# EAGLE library part AT97SC3205T (library KVB-ICs)
Trusted Platform Module (TPM)
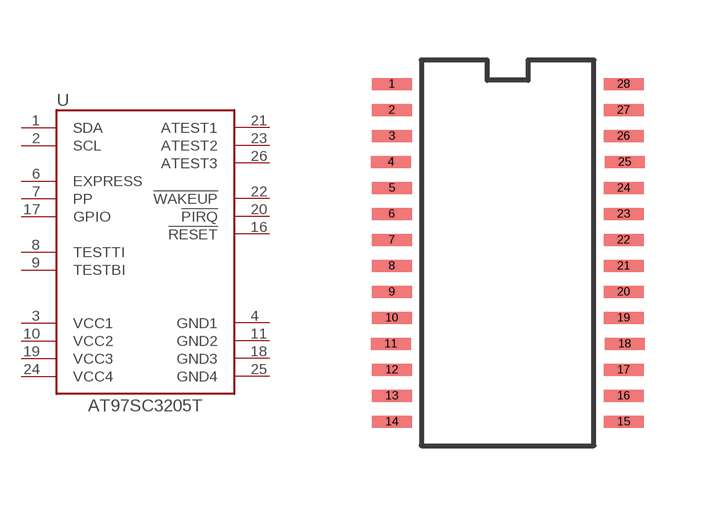
[diagram p3: symbol with the pads of AT97SC3205T; footprint AT97SC3205T]

Designator prefix U

## AT97SC3205T (MAN-PART_NUM: AT97SC3205T-U3A1C-10; MANUFACTURER: Microchip)  [AT97SC3205T]
1  SDA
2  SCL
3  VCC1
4  GND1
6  EXPRESS
7  PP
8  TESTTI
9  TESTBI
10  VCC2
11  GND2
16  !RESET
17  GPIO
18  GND3
19  VCC3
20  !PIRQ
21  ATEST1
22  !WAKEUP
23  ATEST2
24  VCC4
25  GND4
26  ATEST3

## Footprint AT97SC3205T (pad centres in mm)
smd 1 x 0.3: 1 -2.9,4.225; 2 -2.9,3.575; 3 -2.9,2.925; 4 -2.925,2.275; 5 -2.9,1.625; 6 -2.9,0.975; 7 -2.9,0.325; 8 -2.9,-0.325; 9 -2.9,-0.975; 10 -2.9,-1.625; 11 -2.925,-2.275; 12 -2.9,-2.925; 13 -2.9,-3.575; 14 -2.9,-4.225; 15 2.9,-4.225; 16 2.9,-3.575; 17 2.9,-2.925; 18 2.925,-2.275; 19 2.9,-1.625; 20 2.9,-0.975; 21 2.9,-0.325; 22 2.9,0.325; 23 2.9,0.975; 24 2.9,1.625; 25 2.925,2.275; 26 2.9,2.925; 27 2.9,3.575; 28 2.9,4.225